# Altium footprint library WR-TBL_Spring Clamp_5.08mm.PcbLib: 47 footprints (part 3 of 3)
Each footprint in its own frame and in the unit in brackets; x right, y up, seen from the top. Pads: shape width x height; smd on the part's side, far side on the other; paste and mask are expansions set on the pad; w line width, h text height; cw(c..) or ccw(c..) is an arc to the next point about the centre after c.
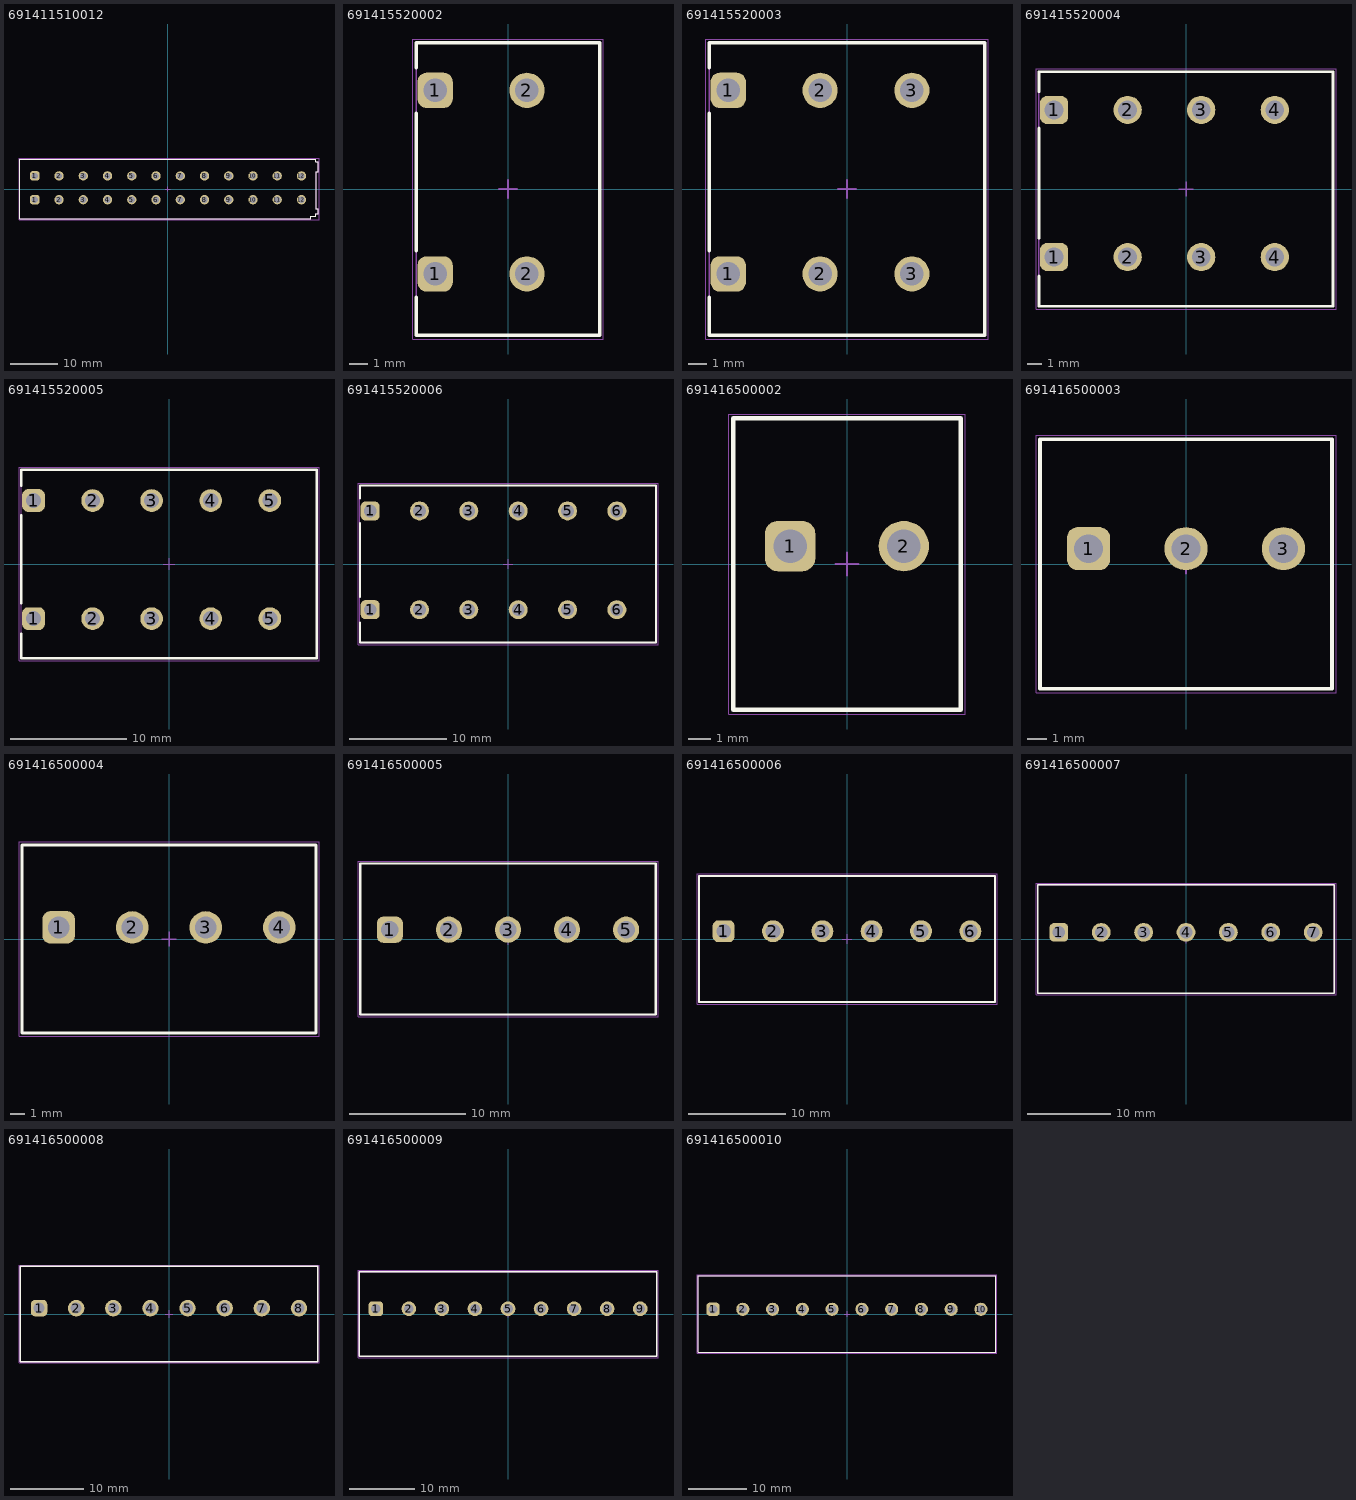
[diagram p2: the footprints below, top view; thin cyan lines are the x and y axes]

## 691411510012 [mm] "5.08 mm Screwless Horizontal Entry, 12p"
height 13.9
pads (24):
  rrect50% 1.95x1.95 hole 1.3: 1(-27.87,-2.25) 1(-27.87,2.75)
  round 1.95 hole 1.3: 2(-22.79,-2.25) 2(-22.79,2.75) 3(-17.71,-2.25) 3(-17.71,2.75) 4(-12.63,-2.25) 4(-12.63,2.75) 5(-7.55,-2.25) 5(-7.55,2.75) 6(-2.47,-2.25) 6(-2.47,2.75) 7(2.61,-2.25) 7(2.61,2.75) 8(7.69,-2.25) 8(7.69,2.75) 9(12.77,-2.25) 9(12.77,2.75) 10(17.85,-2.25) 10(17.85,2.75) 11(22.93,-2.25) 11(22.93,2.75) 12(28.01,-2.25) 12(28.01,2.75)
Top Overlay:
  lines w0.2: -30.98,-6.25 29.98,-6.25 29.98,-5.75 30.98,-5.75 30.98,-5.2 31.48,-5.2 31.48,-4.15 30.98,-4.15 30.98,3.6 31.48,3.6 31.48,5.7 30.98,5.7 30.98,6.25 -30.98,6.25 -30.98,-6.25
Top Assembly:
  lines w0.1: -30.98,-6.25 -30.98,6.25 30.98,6.25 30.98,5.7 31.48,5.7 31.48,3.6 30.98,3.6 30.98,-4.15 31.48,-4.15 31.48,-5.2 30.98,-5.2 30.98,-5.75 29.98,-5.75 29.98,-6.25 -30.98,-6.25
Top Designator:
  text ".Designator" at -3.647,-0.357 h1
Top 3D Body:
  lines w0.1: -30.98,-6.25 29.98,-6.25 29.98,-5.75 30.98,-5.75 30.98,-5.2 31.48,-5.2 31.48,-4.15 30.98,-4.15 30.98,3.6 31.48,3.6 31.48,5.7 30.98,5.7 30.98,6.25 -30.98,6.25 -30.98,-6.25
Top Courtyard:
  lines w0.05: -31.18,-6.45 -31.18,6.45 31.68,6.45 31.68,-6.45 -31.18,-6.45
Top Component Center:
  lines w0.1: -0.5,0 0.5,0 ; 0,-0.5 0,0.5
3D body "691411510012.stp": height 13.95, standoff -3.55, extent -30.98,-6.25 31.48,6.25

## 691415520002 [mm] "5.08 mm Screwless 45¡ã Entry, 2p"
height 13
pads (4):
  rrect50% 1.95x1.95 hole 1.3: 1(-4.03,-4.7) 1(-4.03,5.46)
  round 1.95 hole 1.3: 2(1.05,-4.7) 2(1.05,5.46)
Top Overlay:
  lines w0.2: -5.08,-6 -5.08,-8.1 5.08,-8.1 5.08,8.1 -5.08,8.1 -5.08,6.72 ; -5.08,-3.4 -5.08,4.2
Top Assembly:
  lines w0.1: -5.08,-8.1 5.08,-8.1 5.08,8.1 -5.08,8.1 -5.08,-8.1
Top Designator:
  text ".Designator" at -3.647,-0.357 h1
Top 3D Body:
  lines w0.1: -5.08,-8.1 -5.08,8.1 5.08,8.1 5.08,-8.1 -5.08,-8.1
Top Courtyard:
  lines w0.05: -5.28,-8.3 5.28,-8.3 5.28,8.3 -5.28,8.3 -5.28,-8.3
Top Component Center:
  lines w0.1: -0.5,0 0.5,0 ; 0,-0.5 0,0.5
3D body "691415520002.stp": height 13.1, standoff -3.4, extent -5.08,-8.1 5.08,8.1

## 691415520003 [mm] "5.08 mm Screwless 45¡ã Entry, 3p"
height 13
pads (6):
  rrect50% 1.95x1.95 hole 1.3: 1(-6.57,-4.7) 1(-6.57,5.46)
  round 1.95 hole 1.3: 2(-1.49,-4.7) 2(-1.49,5.46) 3(3.59,-4.7) 3(3.59,5.46)
Top Overlay:
  lines w0.2: -7.62,-6 -7.62,-8.1 7.62,-8.1 7.62,8.1 -7.62,8.1 -7.62,6.72 ; -7.62,-3.4 -7.62,4.2
Top Assembly:
  lines w0.1: -7.62,-8.1 7.62,-8.1 7.62,8.1 -7.62,8.1 -7.62,-8.1
Top Designator:
  text ".Designator" at -3.647,-0.357 h1
Top 3D Body:
  lines w0.1: -7.62,-8.1 -7.62,8.1 7.62,8.1 7.62,-8.1 -7.62,-8.1
Top Courtyard:
  lines w0.05: -7.82,-8.3 7.82,-8.3 7.82,8.3 -7.82,8.3 -7.82,-8.3
Top Component Center:
  lines w0.1: -0.5,0 0.5,0 ; 0,-0.5 0,0.5
3D body "691415520003.stp": height 13.1, standoff -3.4, extent -7.62,-8.1 7.62,8.1

## 691415520004 [mm] "5.08 mm Screwless 45¡ã Entry, 4p"
height 13
pads (8):
  rrect50% 1.95x1.95 hole 1.3: 1(-9.11,-4.7) 1(-9.11,5.46)
  round 1.95 hole 1.3: 2(-4.03,-4.7) 2(-4.03,5.46) 3(1.05,-4.7) 3(1.05,5.46) 4(6.13,-4.7) 4(6.13,5.46)
Top Overlay:
  lines w0.2: -10.16,-6 -10.16,-8.1 10.16,-8.1 10.16,8.1 -10.16,8.1 -10.16,6.72 ; -10.16,-3.4 -10.16,4.2
Top Assembly:
  lines w0.1: -10.16,-8.1 10.16,-8.1 10.16,8.1 -10.16,8.1 -10.16,-8.1
Top Designator:
  text ".Designator" at -3.647,-0.357 h1
Top 3D Body:
  lines w0.1: -10.16,-8.1 -10.16,8.1 10.16,8.1 10.16,-8.1 -10.16,-8.1
Top Courtyard:
  lines w0.05: -10.36,-8.3 10.36,-8.3 10.36,8.3 -10.36,8.3 -10.36,-8.3
Top Component Center:
  lines w0.1: -0.5,0 0.5,0 ; 0,-0.5 0,0.5
3D body "691415520004.stp": height 13.1, standoff -3.4, extent -10.16,-8.1 10.16,8.1

## 691415520005 [mm] "5.08 mm Screwless 45¡ã Entry, 5p"
height 13
pads (10):
  rrect50% 1.95x1.95 hole 1.3: 1(-11.65,-4.7) 1(-11.65,5.46)
  round 1.95 hole 1.3: 2(-6.57,-4.7) 2(-6.57,5.46) 3(-1.49,-4.7) 3(-1.49,5.46) 4(3.59,-4.7) 4(3.59,5.46) 5(8.67,-4.7) 5(8.67,5.46)
Top Overlay:
  lines w0.2: -12.7,-6 -12.7,-8.1 12.7,-8.1 12.7,8.1 -12.7,8.1 -12.7,6.72 ; -12.7,-3.4 -12.7,4.2
Top Assembly:
  lines w0.1: -12.7,-8.1 12.7,-8.1 12.7,8.1 -12.7,8.1 -12.7,-8.1
Top Designator:
  text ".Designator" at -3.647,-0.357 h1
Top 3D Body:
  lines w0.1: -12.7,-8.1 -12.7,8.1 12.7,8.1 12.7,-8.1 -12.7,-8.1
Top Courtyard:
  lines w0.05: -12.9,-8.3 12.9,-8.3 12.9,8.3 -12.9,8.3 -12.9,-8.3
Top Component Center:
  lines w0.1: -0.5,0 0.5,0 ; 0,-0.5 0,0.5
3D body "691415520005.stp": height 13.1, standoff -3.4, extent -12.7,-8.1 12.7,8.1

## 691415520006 [mm] "5.08 mm Screwless 45¡ã Entry, 6p"
height 13
pads (12):
  rrect50% 1.95x1.95 hole 1.3: 1(-14.19,-4.7) 1(-14.19,5.46)
  round 1.95 hole 1.3: 2(-9.11,-4.7) 2(-9.11,5.46) 3(-4.03,-4.7) 3(-4.03,5.46) 4(1.05,-4.7) 4(1.05,5.46) 5(6.13,-4.7) 5(6.13,5.46) 6(11.21,-4.7) 6(11.21,5.46)
Top Overlay:
  lines w0.2: -15.24,-6 -15.24,-8.1 15.24,-8.1 15.24,8.1 -15.24,8.1 -15.24,6.72 ; -15.24,-3.4 -15.24,4.2
Top Assembly:
  lines w0.1: -15.24,-8.1 -15.24,8.1 15.24,8.1 15.24,-8.1 -15.24,-8.1
Top Designator:
  text ".Designator" at -3.647,-0.357 h1
Top 3D Body:
  lines w0.1: -15.24,-8.1 15.24,-8.1 15.24,8.1 -15.24,8.1 -15.24,-8.1
Top Courtyard:
  lines w0.05: -15.44,-8.3 -15.44,8.3 15.44,8.3 15.44,-8.3 -15.44,-8.3
Top Component Center:
  lines w0.1: -0.5,0 0.5,0 ; 0,-0.5 0,0.5
3D body "691415520006.stp": height 13.1, standoff -3.4, extent -15.24,-8.1 15.24,8.1

## 691416500002 [mm] "5.08 mm Screwless Vertical Entry, 2p"
height 12.5
pads (2):
  rrect50% 2.25x2.25 hole 1.5: 1(-2.54,0.8)
  round 2.25 hole 1.5: 2(2.54,0.8)
Top Overlay:
  lines w0.2: -5.08,-6.5 5.08,-6.5 5.08,6.5 -5.08,6.5 -5.08,-6.5
Top Assembly:
  lines w0.1: -5.08,-6.5 -5.08,6.5 5.08,6.5 5.08,-6.5 -5.08,-6.5
Top Designator:
  text ".Designator" at -3.647,-0.357 h1
Top 3D Body:
  lines w0.1: -5.08,-6.5 5.08,-6.5 5.08,6.5 -5.08,6.5 -5.08,-6.5
Top Courtyard:
  lines w0.05: -5.28,-6.7 5.28,-6.7 5.28,6.7 -5.28,6.7 -5.28,-6.7
Top Component Center:
  lines w0.1: -0.5,0 0.5,0 ; 0,-0.5 0,0.5
3D body "691416500002.stp": height 12.55, standoff -4.95, extent -5.08,-6.5 5.08,6.5

## 691416500003 [mm] "5.08 mm Screwless Vertical Entry, 3p"
height 12.5
pads (3):
  rrect50% 2.25x2.25 hole 1.5: 1(-5.08,0.8)
  round 2.25 hole 1.5: 2(0,0.8) 3(5.08,0.8)
Top Overlay:
  lines w0.2: -7.62,-6.5 -7.62,6.5 7.62,6.5 7.62,-6.5 -7.62,-6.5
Top Assembly:
  lines w0.1: -7.62,-6.5 7.62,-6.5 7.62,6.5 -7.62,6.5 -7.62,-6.5
Top Designator:
  text ".Designator" at -3.647,-0.357 h1
Top 3D Body:
  lines w0.1: -7.62,-6.5 -7.62,6.5 7.62,6.5 7.62,-6.5 -7.62,-6.5
Top Courtyard:
  lines w0.05: -7.82,-6.7 -7.82,6.7 7.82,6.7 7.82,-6.7 -7.82,-6.7
Top Component Center:
  lines w0.1: -0.5,0 0.5,0 ; 0,-0.5 0,0.5
3D body "691416500003.stp": height 12.55, standoff -4.95, extent -7.62,-6.5 7.62,6.5

## 691416500004 [mm] "5.08 mm Screwless Vertical Entry, 4p"
height 12.5
pads (4):
  rrect50% 2.25x2.25 hole 1.5: 1(-7.62,0.8)
  round 2.25 hole 1.5: 2(-2.54,0.8) 3(2.54,0.8) 4(7.62,0.8)
Top Overlay:
  lines w0.2: -10.16,-6.5 10.16,-6.5 10.16,6.5 -10.16,6.5 -10.16,-6.5
Top Assembly:
  lines w0.1: -10.16,-6.5 -10.16,6.5 10.16,6.5 10.16,-6.5 -10.16,-6.5
Top Designator:
  text ".Designator" at -3.647,-0.357 h1
Top 3D Body:
  lines w0.1: -10.16,-6.5 10.16,-6.5 10.16,6.5 -10.16,6.5 -10.16,-6.5
Top Courtyard:
  lines w0.05: -10.36,-6.7 10.36,-6.7 10.36,6.7 -10.36,6.7 -10.36,-6.7
Top Component Center:
  lines w0.1: -0.5,0 0.5,0 ; 0,-0.5 0,0.5
3D body "691416500004.stp": height 12.55, standoff -4.95, extent -10.16,-6.5 10.16,6.5

## 691416500005 [mm] "5.08 mm Screwless Vertical Entry, 5p"
height 12.5
pads (5):
  rrect50% 2.25x2.25 hole 1.5: 1(-10.16,0.8)
  round 2.25 hole 1.5: 2(-5.08,0.8) 3(0,0.8) 4(5.08,0.8) 5(10.16,0.8)
Top Overlay:
  lines w0.2: -12.7,-6.5 -12.7,6.5 12.7,6.5 12.7,-6.5 -12.7,-6.5
Top Assembly:
  lines w0.1: -12.7,-6.5 12.7,-6.5 12.7,6.5 -12.7,6.5 -12.7,-6.5
Top Designator:
  text ".Designator" at -3.647,-0.357 h1
Top 3D Body:
  lines w0.1: -12.7,-6.5 -12.7,6.5 12.7,6.5 12.7,-6.5 -12.7,-6.5
Top Courtyard:
  lines w0.05: -12.9,-6.7 -12.9,6.7 12.9,6.7 12.9,-6.7 -12.9,-6.7
Top Component Center:
  lines w0.1: -0.5,0 0.5,0 ; 0,-0.5 0,0.5
3D body "691416500005.stp": height 12.55, standoff -4.95, extent -12.7,-6.5 12.7,6.5

## 691416500006 [mm] "5.08 mm Screwless Vertical Entry, 6p"
height 12.5
pads (6):
  rrect50% 2.25x2.25 hole 1.5: 1(-12.7,0.8)
  round 2.25 hole 1.5: 2(-7.62,0.8) 3(-2.54,0.8) 4(2.54,0.8) 5(7.62,0.8) 6(12.7,0.8)
Top Overlay:
  lines w0.2: -15.24,-6.5 15.24,-6.5 15.24,6.5 -15.24,6.5 -15.24,-6.5
Top Assembly:
  lines w0.1: -15.24,-6.5 -15.24,6.5 15.24,6.5 15.24,-6.5 -15.24,-6.5
Top Designator:
  text ".Designator" at -3.647,-0.357 h1
Top 3D Body:
  lines w0.1: -15.24,-6.5 15.24,-6.5 15.24,6.5 -15.24,6.5 -15.24,-6.5
Top Courtyard:
  lines w0.05: -15.44,-6.7 15.44,-6.7 15.44,6.7 -15.44,6.7 -15.44,-6.7
Top Component Center:
  lines w0.1: -0.5,0 0.5,0 ; 0,-0.5 0,0.5
3D body "691416500006.stp": height 12.55, standoff -4.95, extent -15.24,-6.5 15.24,6.5

## 691416500007 [mm] "5.08 mm Screwless Vertical Entry, 7p"
height 12.5
pads (7):
  rrect50% 2.25x2.25 hole 1.5: 1(-15.24,0.8)
  round 2.25 hole 1.5: 2(-10.16,0.8) 3(-5.08,0.8) 4(0,0.8) 5(5.08,0.8) 6(10.16,0.8) 7(15.24,0.8)
Top Overlay:
  lines w0.2: -17.78,-6.5 -17.78,6.5 17.78,6.5 17.78,-6.5 -17.78,-6.5
Top Assembly:
  lines w0.1: -17.78,-6.5 17.78,-6.5 17.78,6.5 -17.78,6.5 -17.78,-6.5
Top Designator:
  text ".Designator" at -3.647,-0.357 h1
Top 3D Body:
  lines w0.1: -17.78,-6.5 -17.78,6.5 17.78,6.5 17.78,-6.5 -17.78,-6.5
Top Courtyard:
  lines w0.05: -17.98,-6.7 -17.98,6.7 17.98,6.7 17.98,-6.7 -17.98,-6.7
Top Component Center:
  lines w0.1: -0.5,0 0.5,0 ; 0,-0.5 0,0.5
3D body "691416500007.stp": height 12.55, standoff -4.95, extent -17.78,-6.5 17.78,6.5

## 691416500008 [mm] "5.08 mm Screwless Vertical Entry, 8p"
height 12.5
pads (8):
  rrect50% 2.25x2.25 hole 1.5: 1(-17.78,0.8)
  round 2.25 hole 1.5: 2(-12.7,0.8) 3(-7.62,0.8) 4(-2.54,0.8) 5(2.54,0.8) 6(7.62,0.8) 7(12.7,0.8) 8(17.78,0.8)
Top Overlay:
  lines w0.2: -20.32,-6.5 20.32,-6.5 20.32,6.5 -20.32,6.5 -20.32,-6.5
Top Assembly:
  lines w0.1: -20.32,-6.5 -20.32,6.5 20.32,6.5 20.32,-6.5 -20.32,-6.5
Top Designator:
  text ".Designator" at -3.647,-0.357 h1
Top 3D Body:
  lines w0.1: -20.32,-6.5 20.32,-6.5 20.32,6.5 -20.32,6.5 -20.32,-6.5
Top Courtyard:
  lines w0.05: -20.52,-6.7 20.52,-6.7 20.52,6.7 -20.52,6.7 -20.52,-6.7
Top Component Center:
  lines w0.1: -0.5,0 0.5,0 ; 0,-0.5 0,0.5
3D body "691416500008.stp": height 12.55, standoff -4.95, extent -20.32,-6.5 20.32,6.5

## 691416500009 [mm] "5.08 mm Screwless Vertical Entry, 9p"
height 12.5
pads (9):
  rrect50% 2.25x2.25 hole 1.5: 1(-20.32,0.8)
  round 2.25 hole 1.5: 2(-15.24,0.8) 3(-10.16,0.8) 4(-5.08,0.8) 5(0,0.8) 6(5.08,0.8) 7(10.16,0.8) 8(15.24,0.8) 9(20.32,0.8)
Top Overlay:
  lines w0.2: -22.86,-6.5 22.86,-6.5 22.86,6.5 -22.86,6.5 -22.86,-6.5
Top Assembly:
  lines w0.1: -22.86,-6.5 -22.86,6.5 22.86,6.5 22.86,-6.5 -22.86,-6.5
Top Designator:
  text ".Designator" at -3.647,-0.357 h1
Top 3D Body:
  lines w0.1: -22.86,-6.5 22.86,-6.5 22.86,6.5 -22.86,6.5 -22.86,-6.5
Top Courtyard:
  lines w0.05: -23.06,-6.7 23.06,-6.7 23.06,6.7 -23.06,6.7 -23.06,-6.7
Top Component Center:
  lines w0.1: -0.5,0 0.5,0 ; 0,-0.5 0,0.5
3D body "691416500009.stp": height 12.55, standoff -4.95, extent -22.86,-6.5 22.86,6.5

## 691416500010 [mm] "5.08 mm Screwless Vertical Entry, 10p"
height 12.5
pads (10):
  rrect50% 2.25x2.25 hole 1.5: 1(-22.86,0.8)
  round 2.25 hole 1.5: 2(-17.78,0.8) 3(-12.7,0.8) 4(-7.62,0.8) 5(-2.54,0.8) 6(2.54,0.8) 7(7.62,0.8) 8(12.7,0.8) 9(17.78,0.8) 10(22.86,0.8)
Top Overlay:
  lines w0.2: -25.4,-6.5 -25.4,6.5 25.4,6.5 25.4,-6.5 -25.4,-6.5
Top Assembly:
  lines w0.1: -25.4,-6.5 25.4,-6.5 25.4,6.5 -25.4,6.5 -25.4,-6.5
Top Designator:
  text ".Designator" at -3.647,-0.357 h1
Top 3D Body:
  lines w0.1: -25.4,-6.5 -25.4,6.5 25.4,6.5 25.4,-6.5 -25.4,-6.5
Top Courtyard:
  lines w0.05: -25.6,-6.7 -25.6,6.7 25.6,6.7 25.6,-6.7 -25.6,-6.7
Top Component Center:
  lines w0.1: -0.5,0 0.5,0 ; 0,-0.5 0,0.5
3D body "691416500010.stp": height 12.55, standoff -4.95, extent -25.4,-6.5 25.4,6.5